# EAGLE library part 618044331023 (library Wurth-USB)
WR-DSUB Male High Density Angled PCB Connector w. Hex Screw 44Pins=>Code : Con_I-O_DSUB_PCB_Male_w-screw_618044331023 <https://katalog.we-online.com/media/images/v2/o33094v209%20Family_WR-DSUB_6180xx331023.jpg> Details see: https://katalog.we-online.com/en/em/DSUB_MALE_HIGH_DENSITY_ANGLED_PCB_CONNECTOR_W_HEX_SCREW_6180XX331023 Updated by Ella Wu 2019-03-19 2019 (C) Würth Elektronik
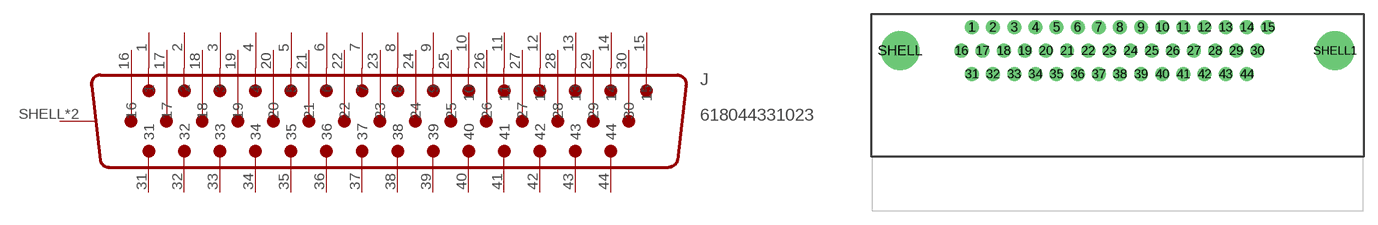
[diagram p50: symbol with the pads of 618044331023; footprint 618044331023]

Designator prefix J

## 618044331023 (WE-NUMBER: 618044331023)  [618044331023]
1  1
2  2
3  3
4  4
5  5
6  6
7  7
8  8
9  9
10  10
11  11
12  12
13  13
14  14
15  15
16  16
17  17
18  18
19  19
20  20
21  21
22  22
23  23
24  24
25  25
26  26
27  27
28  28
29  29
30  30
31  31
32  32
33  33
34  34
35  35
36  36
37  37
38  38
39  39
40  40
41  41
42  42
43  43
44  44
SHELL  SHIELD
SHELL1  SHIELD

## Footprint 618044331023 (pad centres in mm)
WR-DSUB Male High Density Angled PCB Connector with Hex Screw, 44 Pins
drill 1: 1 -15.776,2.54; 2 -13.486,2.54; 3 -11.196,2.54; 4 -8.906,2.54; 5 -6.616,2.54; 6 -4.326,2.54; 7 -2.036,2.54; 8 0.254,2.54; 9 2.544,2.54; 10 4.834,2.54; 11 7.124,2.54; 12 9.414,2.54; 13 11.704,2.54; 14 13.994,2.54; 15 16.284,2.54; 16 -16.916,0; 17 -14.626,0; 18 -12.336,0; 19 -10.046,0; 20 -7.756,0; 21 -5.466,0; 22 -3.176,0; 23 -0.886,0; 24 1.404,0; 25 3.694,0; 26 5.984,0; 27 8.274,0; 28 10.564,0; 29 12.854,0; 30 15.144,0; 31 -15.776,-2.54; 32 -13.486,-2.54; 33 -11.196,-2.54; 34 -8.906,-2.54; 35 -6.616,-2.54; 36 -4.326,-2.54; 37 -2.036,-2.54; 38 0.254,-2.54; 39 2.544,-2.54; 40 4.834,-2.54; 41 7.124,-2.54; 42 9.414,-2.54; 43 11.704,-2.54; 44 13.994,-2.54
drill 3.2: SHELL -23.55,0; SHELL1 23.55,0